# EAGLE library part LPC81XM_TSSOP20 (library LPC81XM)
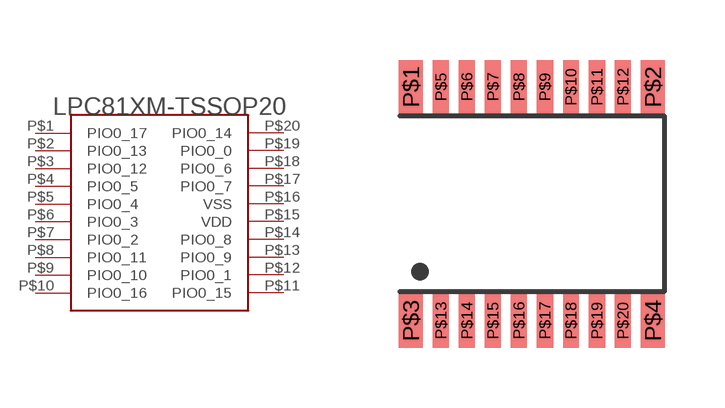
[diagram p0: symbol with the pads of TSSOP20; footprint TSSOP20]

Designator prefix IC

## LPC81XM_TSSOP20  [TSSOP20]
P$1  PIO0_17
P$2  PIO0_13
P$3  PIO0_12
P$4  PIO0_5
P$5  PIO0_4
P$6  PIO0_3
P$7  PIO0_2
P$8  PIO0_11
P$9  PIO0_10
P$10  PIO0_16
P$11  PIO0_15
P$12  PIO0_1
P$13  PIO0_9
P$14  PIO0_8
P$15  VDD
P$16  VSS
P$17  PIO0_7
P$18  PIO0_6
P$19  PIO0_0
P$20  PIO0_14

## Footprint TSSOP20 (pad centres in mm)
smd 0.6 x 1.35: P$1 -3.025,2.925; P$2 3.025,2.925; P$3 -3.025,-2.925; P$4 3.025,-2.925
smd 0.4 x 1.35: P$5 -2.275,2.925; P$6 -1.625,2.925; P$7 -0.975,2.925; P$8 -0.325,2.925; P$9 0.325,2.925; P$10 0.975,2.925; P$11 1.625,2.925; P$12 2.275,2.925; P$13 -2.275,-2.925; P$14 -1.625,-2.925; P$15 -0.975,-2.925; P$16 -0.325,-2.925; P$17 0.325,-2.925; P$18 0.975,-2.925; P$19 1.625,-2.925; P$20 2.275,-2.925